# Altium schematic symbol library 10_100BASE-T_SignalTrans.SchLib: 9 symbols
Pins are listed as number, name and electrical type; pins without a type are passive.

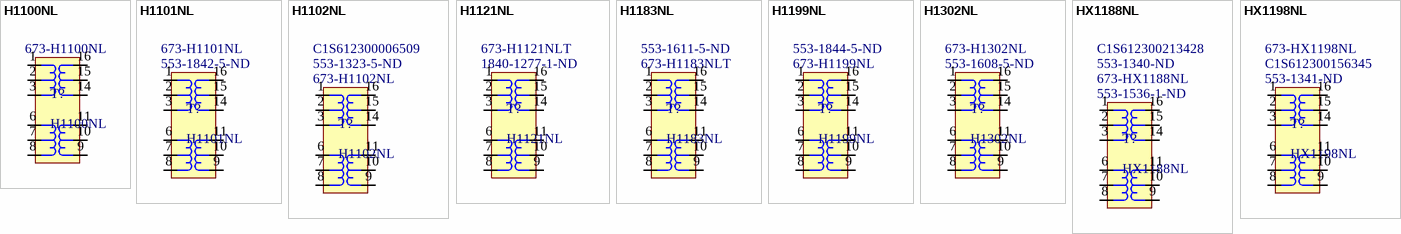
[diagram p0: symbols H1100NL to HX1198NL]

## H1100NL
designator T?  Supplier Part Number 1: 673-H1100NL
Pulse 10/100BASE-T SINGLE PORT SURFACE MOUNT MAGNETICS / TX 2:1. RX 1:1; ComponentLink1Description: Datasheet; ComponentLink1URL: https://media.digikey.com/pdf/Data%20Sheets/Pulse%20PDFs/10_100BASE-T%20Single%20Port%20SMD%20Magnetics_Rev2008.pdf; Supplier 1: Mouser
footprint Pulse-10_100BASE-T_SignalTrans (H110X, H1121, H1199, HX1188, HX1198, H1302)
pins: 1, 2, 3, 6, 7, 8, 9, 10, 11, 14, 15, 16

## H1101NL
designator T?  Supplier Part Number 1: 553-1842-5-ND  Supplier Part Number 2: 673-H1101NL
Pulse 10/100BASE-T SINGLE PORT SURFACE MOUNT MAGNETICS / TX 1.25:1. RX 1:1; ComponentLink1Description: Datasheet; ComponentLink1URL: https://media.digikey.com/pdf/Data%20Sheets/Pulse%20PDFs/10_100BASE-T%20Single%20Port%20SMD%20Magnetics_Rev2008.pdf; Supplier 1: Digi-Key; Supplier 2: Mouser
footprint Pulse-10_100BASE-T_SignalTrans (H110X, H1121, H1199, HX1188, HX1198, H1302)
pins: 1, 2, 3, 6, 7, 8, 9, 10, 11, 14, 15, 16

## H1102NL
designator T?  Supplier Part Number 1: 673-H1102NL  Supplier Part Number 2: 553-1323-5-ND  Supplier Part Number 3: C1S612300006509
Pulse 10/100BASE-T SINGLE PORT SURFACE MOUNT MAGNETICS / TX 1:1. RX 1:1; ComponentLink1Description: Datasheet; ComponentLink1URL: https://media.digikey.com/pdf/Data%20Sheets/Pulse%20PDFs/10_100BASE-T%20Single%20Port%20SMD%20Magnetics_Rev2008.pdf; Supplier 1: Mouser; Supplier 2: Digi-Key; Supplier 3: Chip One Stop
footprint Pulse-10_100BASE-T_SignalTrans (H110X, H1121, H1199, HX1188, HX1198, H1302)
pins: 1, 2, 3, 6, 7, 8, 9, 10, 11, 14, 15, 16

## H1121NL
designator T?  Supplier Part Number 1: 1840-1277-1-ND  Supplier Part Number 2: 673-H1121NLT
Pulse 10/100BASE-T SINGLE PORT SURFACE MOUNT MAGNETICS / TX 1:1.414. RX 1:1; ComponentLink1Description: Datasheet; ComponentLink1URL: https://media.digikey.com/pdf/Data%20Sheets/Pulse%20PDFs/10_100BASE-T%20Single%20Port%20SMD%20Magnetics_Rev2008.pdf; Supplier 1: Digikey; Supplier 2: Mouser
footprint Pulse-10_100BASE-T_SignalTrans (H110X, H1121, H1199, HX1188, HX1198, H1302)
pins: 1, 2, 3, 6, 7, 8, 9, 10, 11, 14, 15, 16

## H1183NL
designator T?  Supplier Part Number 1: 673-H1183NLT  Supplier Part Number 2: 553-1611-5-ND
Pulse 10/100BASE-T SINGLE PORT SURFACE MOUNT MAGNETICS / TX 1:1. RX 1:1; ComponentLink1Description: Datasheet; ComponentLink1URL: https://media.digikey.com/pdf/Data%20Sheets/Pulse%20PDFs/10_100BASE-T%20Single%20Port%20SMD%20Magnetics_Rev2008.pdf; Supplier 1: Mouser; Supplier 2: Digi-Key
footprint H1183
pins: 1, 2, 3, 6, 7, 8, 9, 10, 11, 14, 15, 16

## H1199NL
designator T?  Supplier Part Number 1: 673-H1199NL  Supplier Part Number 2: 553-1844-5-ND
Pulse 10/100BASE-T SINGLE PORT SURFACE MOUNT MAGNETICS / TX 1:1. RX 1:1; ComponentLink1Description: Datasheet; ComponentLink1URL: https://media.digikey.com/pdf/Data%20Sheets/Pulse%20PDFs/10_100BASE-T%20Single%20Port%20SMD%20Magnetics_Rev2008.pdf; Supplier 1: Mouser; Supplier 2: Digi-Key
footprint Pulse-10_100BASE-T_SignalTrans (H110X, H1121, H1199, HX1188, HX1198, H1302)
pins: 1, 2, 3, 6, 7, 8, 9, 10, 11, 14, 15, 16

## H1302NL
designator T?  Supplier Part Number 1: 553-1608-5-ND  Supplier Part Number 2: 673-H1302NL
Pulse 10/100BASE-T SINGLE PORT SURFACE MOUNT MAGNETICS / TX 1:1. RX 1:1; ComponentLink1Description: Datasheet; ComponentLink1URL: https://media.digikey.com/pdf/Data%20Sheets/Pulse%20PDFs/10_100BASE-T%20Single%20Port%20SMD%20Magnetics_Rev2008.pdf; Supplier 1: Digi-Key; Supplier 2: Mouser
footprint Pulse-10_100BASE-T_SignalTrans (H110X, H1121, H1199, HX1188, HX1198, H1302)
pins: 1, 2, 3, 6, 7, 8, 9, 10, 11, 14, 15, 16

## HX1188NL
designator T?  Supplier Part Number 1: 553-1536-1-ND  Supplier Part Number 2: 673-HX1188NL  Supplier Part Number 3: 553-1340-ND  Supplier Part Number 4: C1S612300213428
Pulse 10/100BASE-T SINGLE PORT SURFACE MOUNT MAGNETICS / TX 1:1. RX 1:1; ComponentLink1Description: Datasheet; ComponentLink1URL: https://media.digikey.com/pdf/Data%20Sheets/Pulse%20PDFs/10_100BASE-T%20Single%20Port%20SMD%20Magnetics_Rev2008.pdf; Supplier 1: Digi-Key; Supplier 2: Mouser; Supplier 3: Digi-Key; Supplier 4: Chip One Stop
footprint Pulse-10_100BASE-T_SignalTrans (H110X, H1121, H1199, HX1188, HX1198, H1302)
pins: 1, 2, 3, 6, 7, 8, 9, 10, 11, 14, 15, 16

## HX1198NL
designator T?  Supplier Part Number 1: 553-1341-ND  Supplier Part Number 2: C1S612300156345  Supplier Part Number 3: 673-HX1198NL
Pulse 10/100BASE-T SINGLE PORT SURFACE MOUNT MAGNETICS / TX 1:1. RX 1:1; ComponentLink1Description: Datasheet; ComponentLink1URL: https://media.digikey.com/pdf/Data%20Sheets/Pulse%20PDFs/10_100BASE-T%20Single%20Port%20SMD%20Magnetics_Rev2008.pdf; Supplier 1: Digi-Key; Supplier 2: Chip One Stop; Supplier 3: Mouser
footprint Pulse-10_100BASE-T_SignalTrans (H110X, H1121, H1199, HX1188, HX1198, H1302)
pins: 1, 2, 3, 6, 7, 8, 9, 10, 11, 14, 15, 16